# EAGLE library part PIC12F1840-E/SN (library 029000100  -  gKEagleLibrary)
IC, MCU, 8BIT, 7K FLASH, 8SOIC
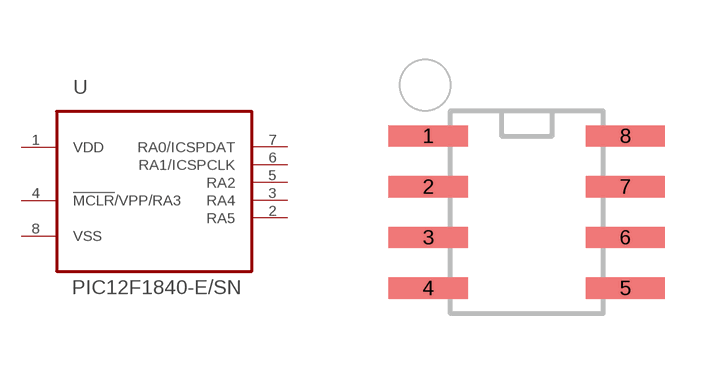
[diagram p46: symbol with the pads of SOIC127P600X175-8N; footprint SOIC127P600X175-8N]

Designator prefix U

## PIC12F1840-E/SN (MPN: PIC12F1840-E/SN; OC_FARNELL: 2045290; OC_NEWARK: 13T4704; PACKAGE: SOIC-8; SUPPLIER: Microchip)  [SOIC127P600X175-8N]
1  VDD  pwr
2  RA5
3  RA4
4  !MCLR!/VPP/RA3  in
5  RA2
6  RA1/ICSPCLK
7  RA0/ICSPDAT
8  VSS  pwr

## Footprint SOIC127P600X175-8N (pad centres in mm)
smd 1.981 x 0.533: 1 -2.464,1.905; 2 -2.464,0.635; 3 -2.464,-0.635; 4 -2.464,-1.905; 5 2.464,-1.905; 6 2.464,-0.635; 7 2.464,0.635; 8 2.464,1.905